# EAGLE library part LOGIC-4081 (library tidyeagle)
4081 Quad 2-Input AND Datasheet: Texas Instruments CD4081B <http://www.ti.com/lit/ds/symlink/cd4082b.pdf> Application Notes: Supply: -0.5V - 20V
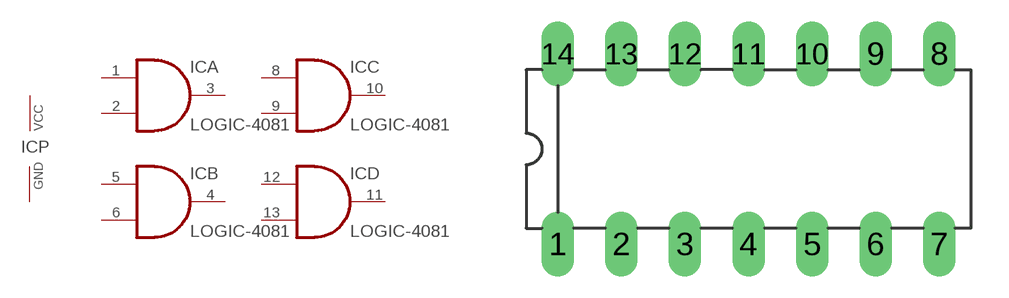
[diagram p26: symbol with the pads of DIL14-3; footprint DIL14-3]

Designator prefix IC; gates A=LOGIC-AND B=LOGIC-AND C=LOGIC-AND D=LOGIC-AND P=PWRN

## LOGIC-4081-DIL14  [DIL14-3]
1  A:I0  in
2  A:I1  in
3  A:O  out
4  B:O  out
5  B:I0  in
6  B:I1  in
7  P:GND  pwr
8  C:I0  in
9  C:I1  in
10  C:O  out
11  D:O  out
12  D:I0  in
13  D:I1  in
14  P:VCC  pwr

## Footprint DIL14-3 (pad centres in mm)
drill 0.8 long: 1 -7.62,-3.81; 2 -5.08,-3.81; 3 -2.54,-3.81; 4 0,-3.81; 5 2.54,-3.81; 6 5.08,-3.81; 7 7.62,-3.81; 8 7.62,3.81; 9 5.08,3.81; 10 2.54,3.81; 11 0,3.81; 12 -2.54,3.81; 13 -5.08,3.81; 14 -7.62,3.81